# Altium schematic symbol library Schlib_Foxconn.SchLib: 1 symbol
Pins are listed as number, name and electrical type; pins without a type are passive.

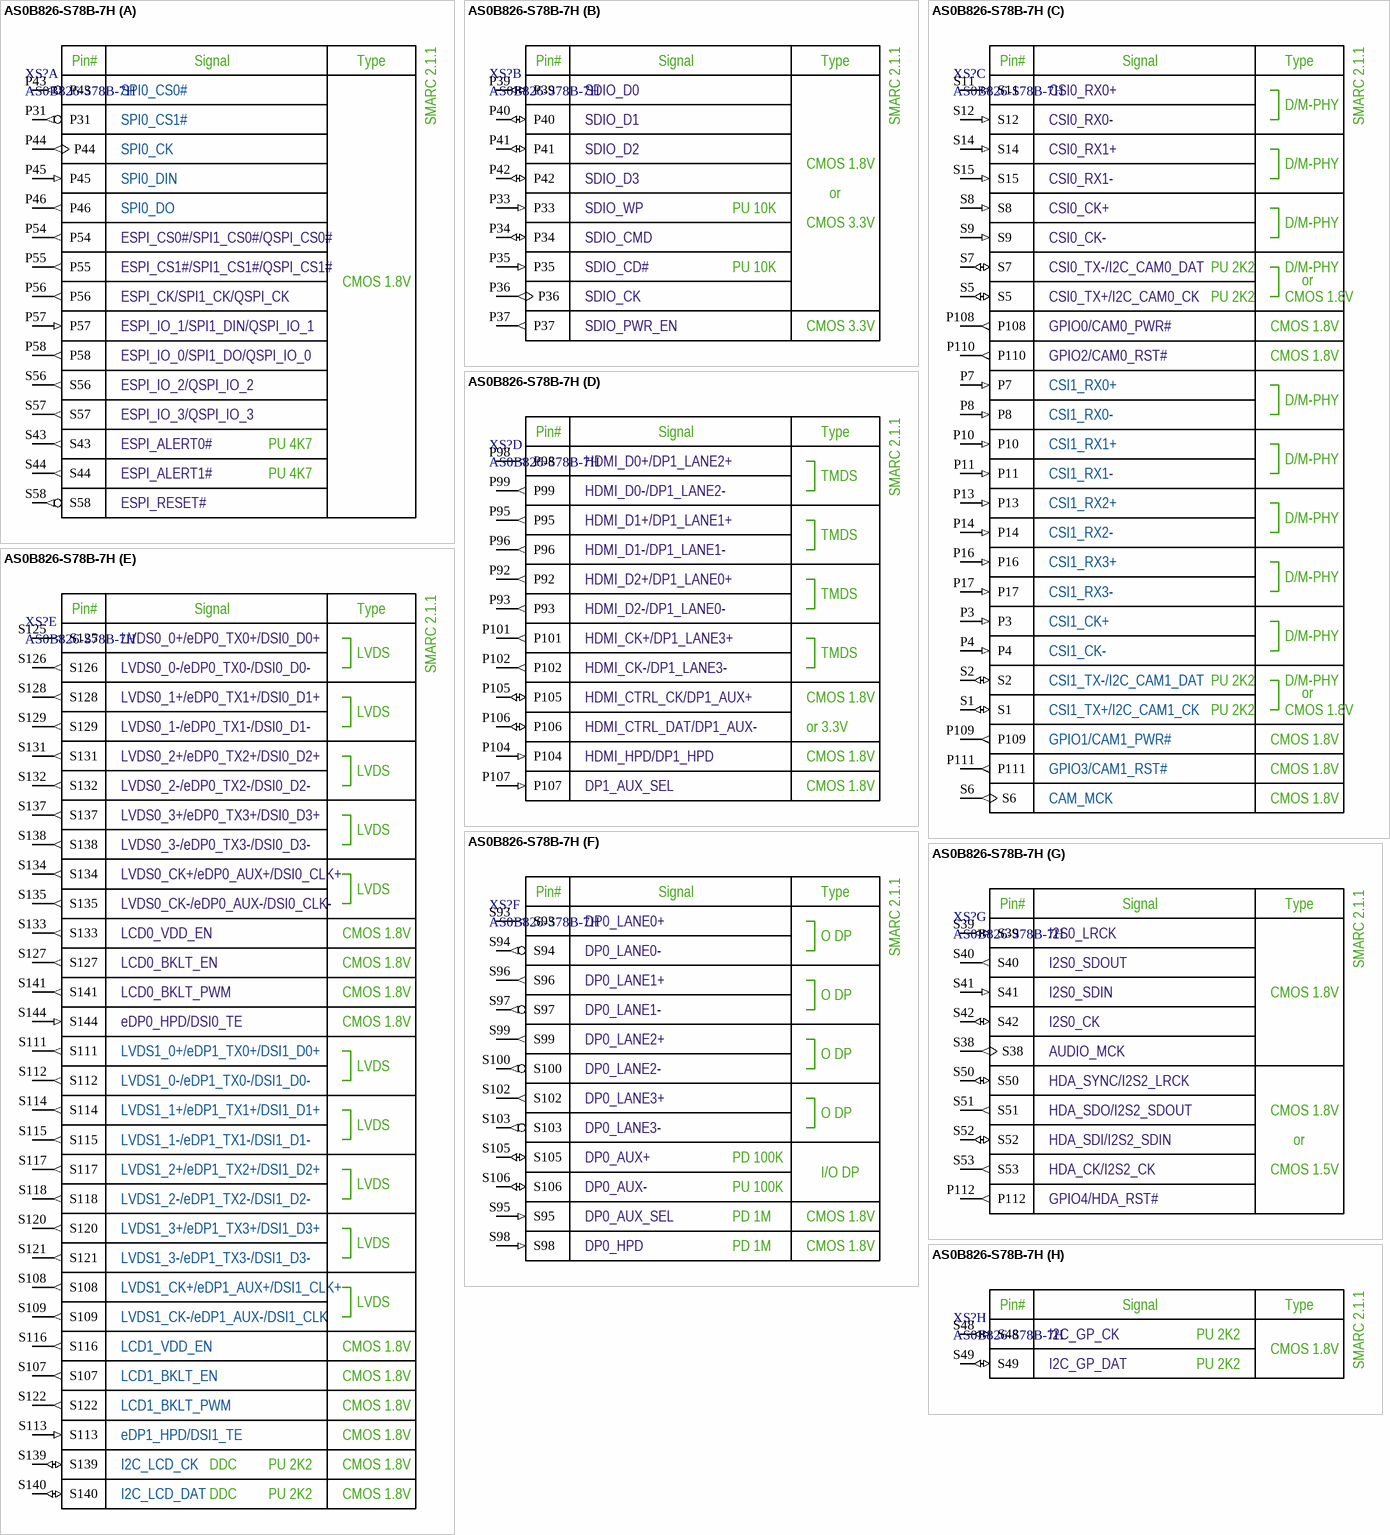
[diagram p0: symbol AS0B826-S78B-7H]

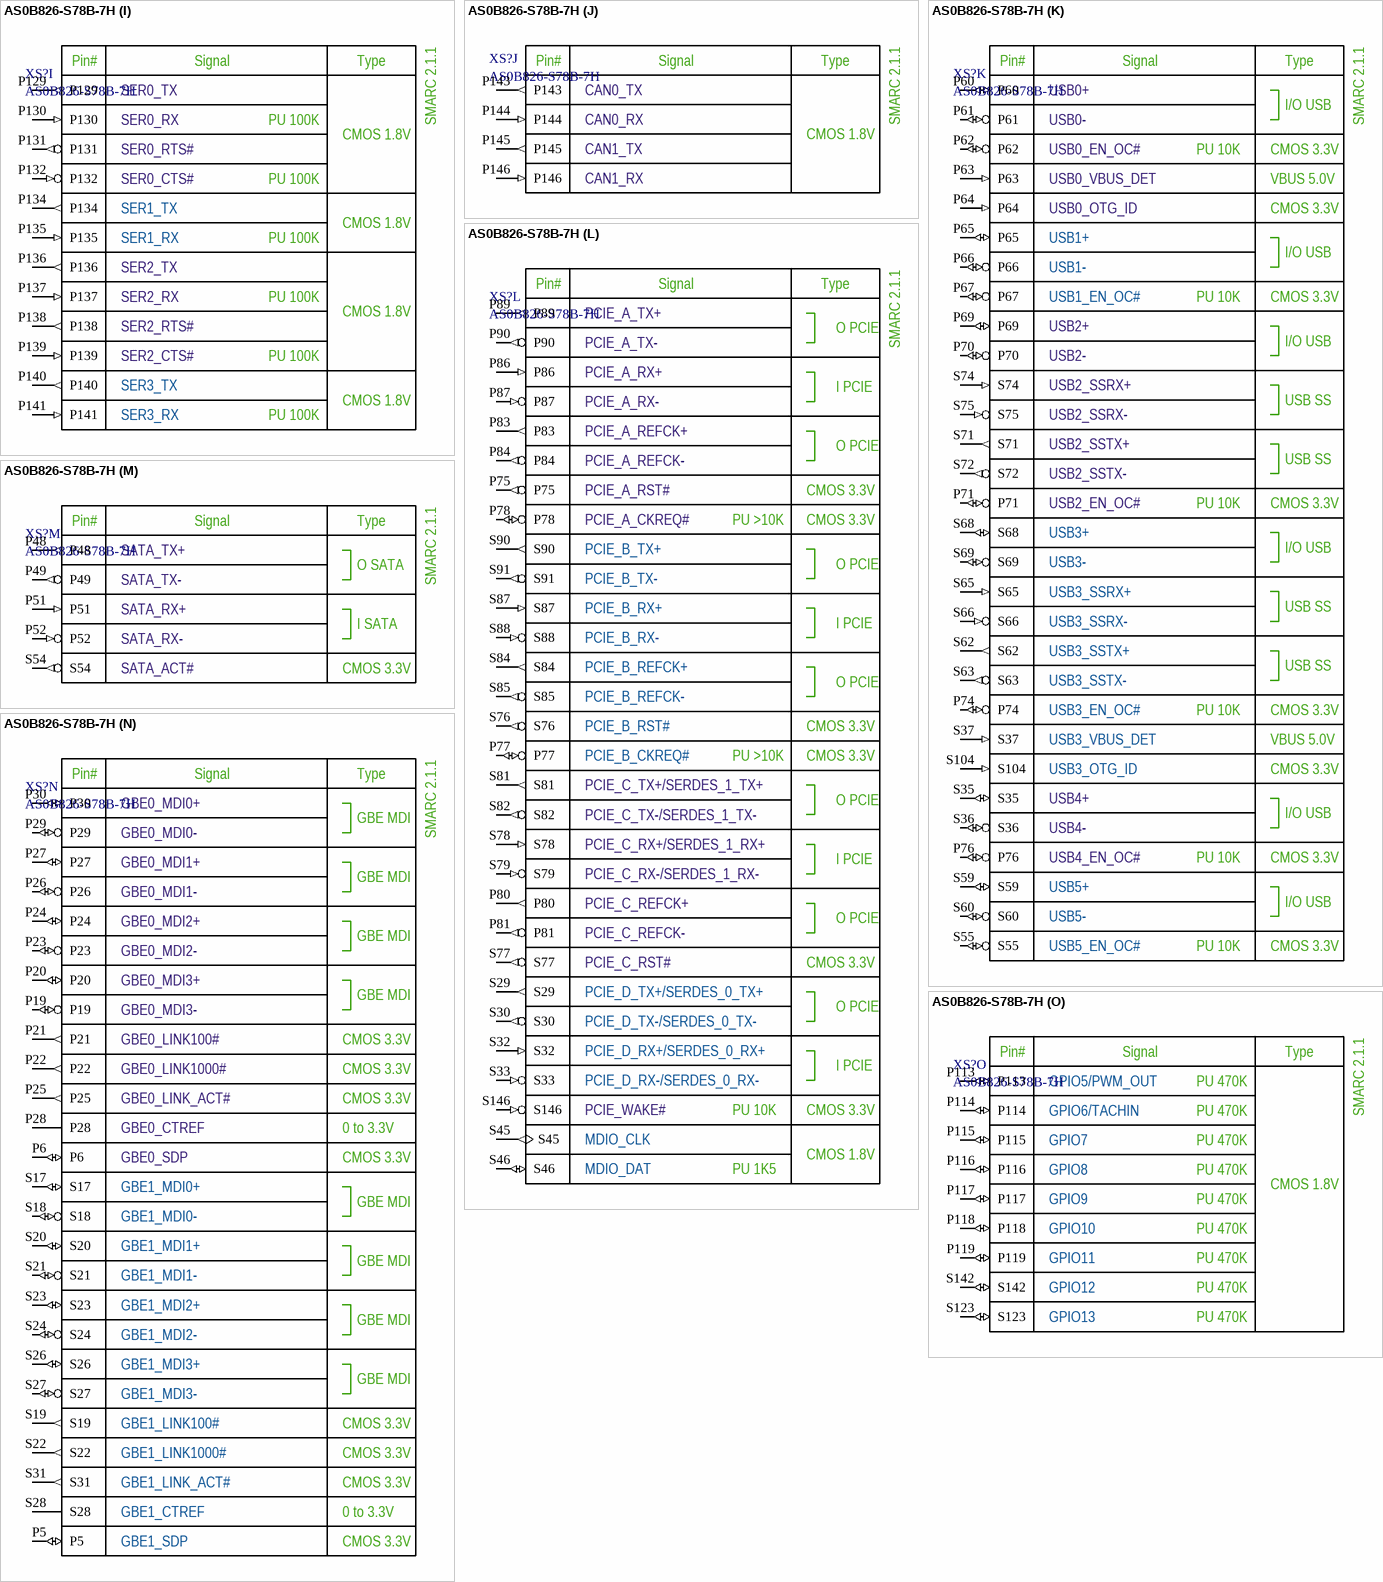
[diagram p1: symbol AS0B826-S78B-7H]

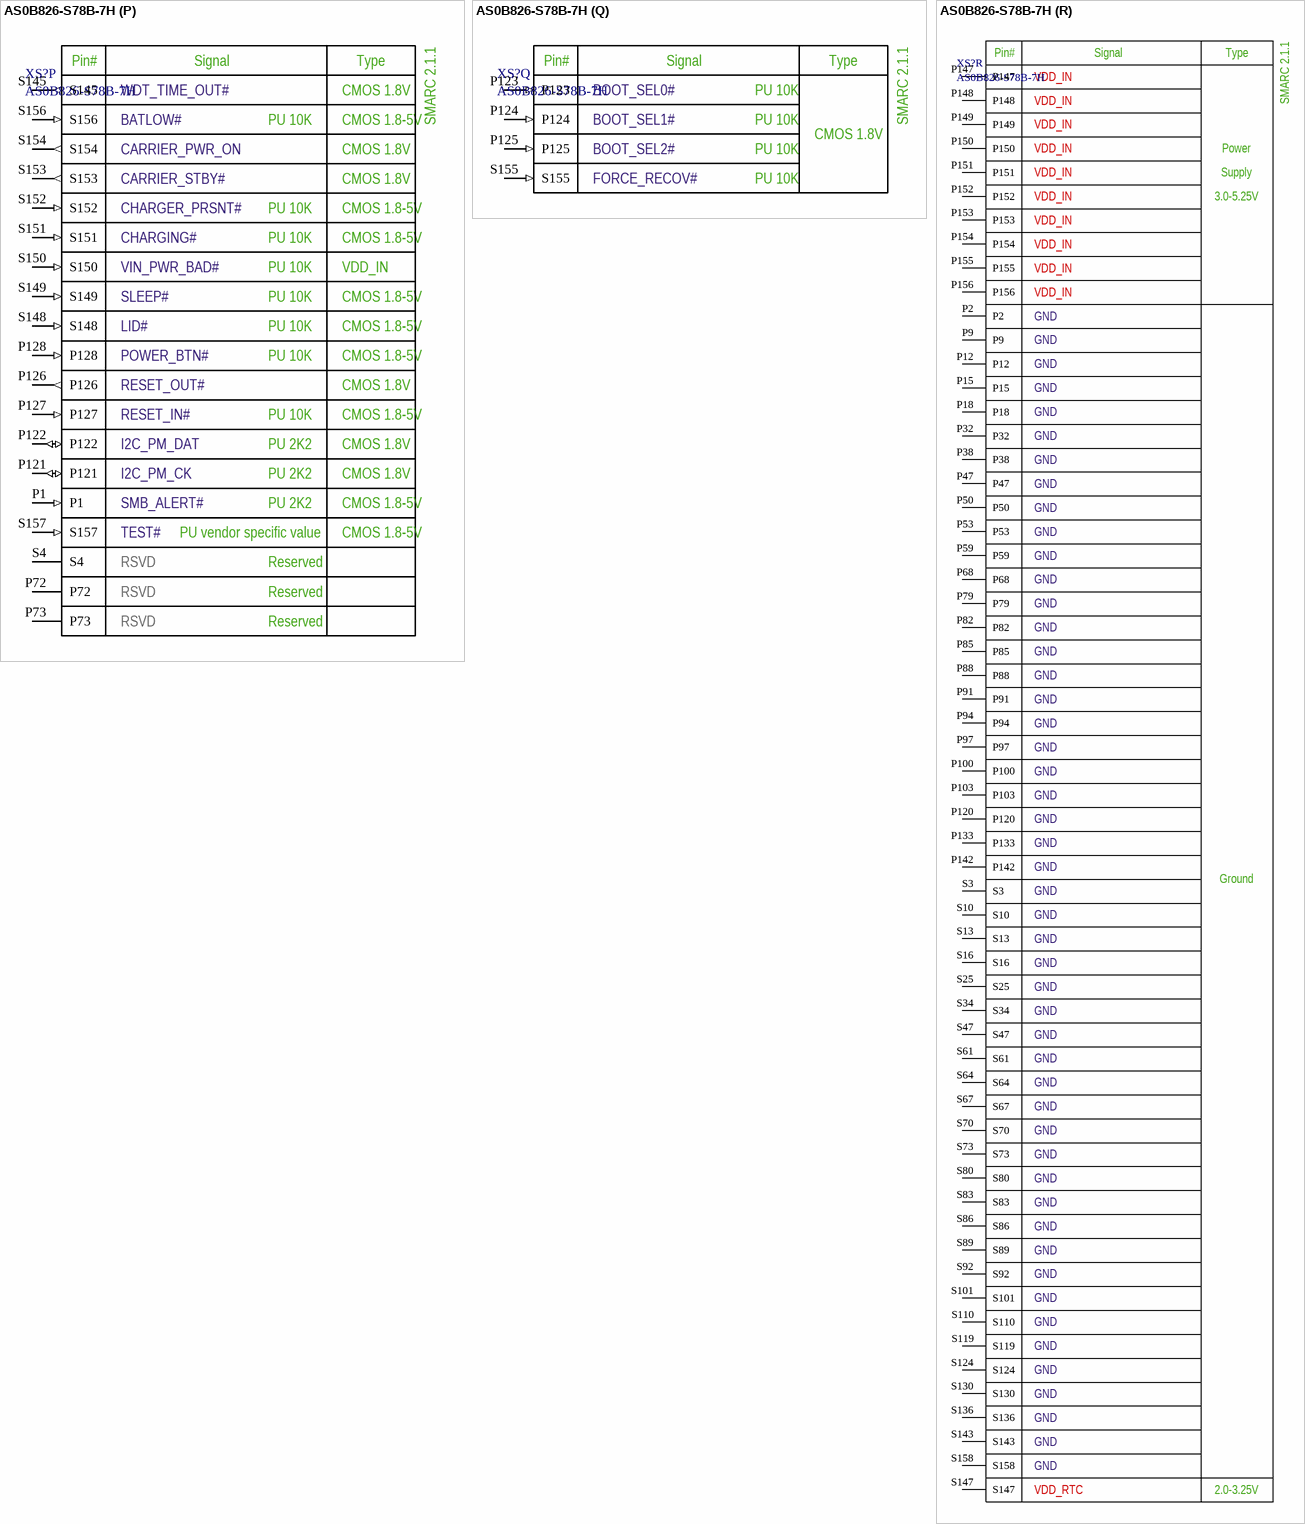
[diagram p2: symbol AS0B826-S78B-7H]

## AS0B826-S78B-7H
designator XS?
314-pin MxM Card Edge Connector, SMARC pinout; Manufacturer: Foxconn; Part Number: AS0B826-S78B-7H
footprint AS0B82X-S78B-XH (MXM3.0 Compatible Connector (SMARC 2.1))
footprint AS0B82X-S78B-XH_with_holes (MXM3.0 Compatible Connector (SMARC 2.1))
part A pins: P31 (out), P43 (out), P44 (out), P45 (in), P46 (out), P54 (out), P55 (out), P56 (out), P57 (in), P58 (out), S43 (out), S44 (out), S56 (out), S57 (out), S58 (out)
part B pins: P33 (in), P34 (io), P35 (in), P36 (out), P37 (out), P39 (io), P40 (io), P41 (io), P42 (io)
part C pins: P3 (in), P4 (in), P7 (in), P8 (in), P10 (in), P11 (in), P13 (in), P14 (in), P16 (in), P17 (in), P108 (out), P109 (out), P110 (out), P111 (out), S1 (io), S2 (io), S5 (io), S6 (out), S7 (io), S8 (in), S9 (in), S11 (in), S12 (in), S14 (in), S15 (in)
part D pins: P92 (out), P93 (out), P95 (out), P96 (out), P98 (out), P99 (out), P101 (out), P102 (out), P104 (in), P105 (io), P106 (io), P107 (in)
part E pins: S107 (out), S108 (out), S109 (out), S111 (out), S112 (out), S113 (in), S114 (out), S115 (out), S116 (out), S117 (out), S118 (out), S120 (out), S121 (out), S122 (out), S125 (out), S126 (out), S127 (out), S128 (out), S129 (out), S131 (out), S132 (out), S133 (out), S134 (out), S135 (out), S137 (out), S138 (out), S139 (io), S140 (io), S141 (out), S144 (in)
part F pins: S93 (out), S94 (out), S95 (in), S96 (out), S97 (out), S98 (in), S99 (out), S100 (out), S102 (out), S103 (out), S105 (io), S106 (io)
part G pins: P112 (out), S38 (out), S39 (io), S40 (out), S41 (in), S42 (io), S50 (io), S51 (out), S52 (io), S53 (out)
part H pins: S48 (io), S49 (io)
part I pins: P129 (out), P130 (in), P131 (out), P132 (in), P134 (out), P135 (in), P136 (out), P137 (in), P138 (out), P139 (in), P140 (out), P141 (in)
part J pins: P143 (out), P144 (in), P145 (out), P146 (in)
part K pins: P60 (io), P61 (io), P62 (io), P63 (in), P64 (in), P65 (io), P66 (io), P67 (io), P69 (io), P70 (io), P71 (io), P74 (io), P76 (io), S35 (io), S36 (io), S37 (in), S55 (io), S59 (io), S60 (io), S62 (out), S63 (out), S65 (in), S66 (in), S68 (io), S69 (io), S71 (out), S72 (out), S74 (in), S75 (in), S104 (in)
part L pins: P75 (out), P77 (io), P78 (io), P80 (out), P81 (out), P83 (out), P84 (out), P86 (in), P87 (in), P89 (out), P90 (out), S29 (out), S30 (out), S32 (in), S33 (in), S45 (out), S46 (io), S76 (out), S77 (out), S78 (in), S79 (in), S81 (out), S82 (out), S84 (out), S85 (out), S87 (in), S88 (in), S90 (out), S91 (out), S146 (in)
part M pins: P48 (out), P49 (out), P51 (in), P52 (in), S54 (out)
part N pins: P5 (io), P6 (io), P19 (io), P20 (io), P21 (out), P22 (out), P23 (io), P24 (io), P25 (out), P26 (io), P27 (io), P28, P29 (io), P30 (io), S17 (io), S18 (io), S19 (out), S20 (io), S21 (io), S22 (out), S23 (io), S24 (io), S26 (io), S27 (io), S28, S31 (out)
part O pins: P113 (io), P114 (io), P115 (io), P116 (io), P117 (io), P118 (io), P119 (io), S123 (io), S142 (io)
part P pins: P1 (in), P72 (hiz), P73 (hiz), P121 (io), P122 (io), P126 (out), P127 (in), P128 (in), S4 (hiz), S145 (out), S148 (in), S149 (in), S150 (in), S151 (in), S152 (in), S153 (out), S154 (out), S156 (in), S157 (in)
part Q pins: P123 (in), P124 (in), P125 (in), S155 (in)
part R pins: P2 (power), P9 (power), P12 (power), P15 (power), P18 (power), P32 (power), P38 (power), P47 (power), P50 (power), P53 (power), P59 (power), P68 (power), P79 (power), P82 (power), P85 (power), P88 (power), P91 (power), P94 (power), P97 (power), P100 (power), P103 (power), P120 (power), P133 (power), P142 (power), P147 (power), P148 (power), P149 (power), P150 (power), P151 (power), P152 (power), P153 (power), P154 (power), P155 (power), P156 (power), S3 (power), S10 (power), S13 (power), S16 (power), S25 (power), S34 (power), S47 (power), S61 (power), S64 (power), S67 (power), S70 (power), S73 (power), S80 (power), S83 (power), S86 (power), S89 (power), S92 (power), S101 (power), S110 (power), S119 (power), S124 (power), S130 (power), S136 (power), S143 (power), S147 (power), S158 (power)
part A text: SMARC 2.1.1; Pin#; Signal; Type; SPI0_CS0#; SPI0_CS1#; SPI0_CK; SPI0_DIN; SPI0_DO; ESPI_CS0#/SPI1_CS0#/QSPI_CS0#; ESPI_CS1#/SPI1_CS1#/QSPI_CS1#; CMOS 1.8V; ESPI_CK/SPI1_CK/QSPI_CK; ESPI_IO_1/SPI1_DIN/QSPI_IO_1; ESPI_IO_0/SPI1_DO/QSPI_IO_0; ESPI_IO_2/QSPI_IO_2; ESPI_IO_3/QSPI_IO_3; ESPI_ALERT0#; PU 4K7; ESPI_ALERT1#; ESPI_RESET#
part B text: SMARC 2.1.1; Pin#; Signal; Type; SDIO_D0; SDIO_D1; SDIO_D2; CMOS 1.8V; SDIO_D3; or; SDIO_WP; PU 10K; CMOS 3.3V; SDIO_CMD; SDIO_CD#; SDIO_CK; SDIO_PWR_EN
part C text: SMARC 2.1.1; Pin#; Signal; Type; CSI0_RX0+; D/M-PHY; CSI0_RX0-; CSI0_RX1+; CSI0_RX1-; CSI0_CK+; CSI0_CK-; CSI0_TX-/I2C_CAM0_DAT; PU 2K2; or; CSI0_TX+/I2C_CAM0_CK; CMOS 1.8V; GPIO0/CAM0_PWR#; GPIO2/CAM0_RST#; CSI1_RX0+; CSI1_RX0-; CSI1_RX1+; CSI1_RX1-; CSI1_RX2+; CSI1_RX2-; CSI1_RX3+; CSI1_RX3-; CSI1_CK+; CSI1_CK-; CSI1_TX-/I2C_CAM1_DAT; CSI1_TX+/I2C_CAM1_CK; GPIO1/CAM1_PWR#; GPIO3/CAM1_RST#; CAM_MCK
part D text: SMARC 2.1.1; Pin#; Signal; Type; HDMI_D0+/DP1_LANE2+; TMDS; HDMI_D0-/DP1_LANE2-; HDMI_D1+/DP1_LANE1+; HDMI_D1-/DP1_LANE1-; HDMI_D2+/DP1_LANE0+; HDMI_D2-/DP1_LANE0-; HDMI_CK+/DP1_LANE3+; HDMI_CK-/DP1_LANE3-; HDMI_CTRL_CK/DP1_AUX+; CMOS 1.8V; HDMI_CTRL_DAT/DP1_AUX-; or 3.3V; HDMI_HPD/DP1_HPD; DP1_AUX_SEL
part E text: SMARC 2.1.1; Pin#; Signal; Type; LVDS0_0+/eDP0_TX0+/DSI0_D0+; LVDS; LVDS0_0-/eDP0_TX0-/DSI0_D0-; LVDS0_1+/eDP0_TX1+/DSI0_D1+; LVDS0_1-/eDP0_TX1-/DSI0_D1-; LVDS0_2+/eDP0_TX2+/DSI0_D2+; LVDS0_2-/eDP0_TX2-/DSI0_D2-; LVDS0_3+/eDP0_TX3+/DSI0_D3+; LVDS0_3-/eDP0_TX3-/DSI0_D3-; LVDS0_CK+/eDP0_AUX+/DSI0_CLK+; LVDS0_CK-/eDP0_AUX-/DSI0_CLK-; LCD0_VDD_EN; CMOS 1.8V; LCD0_BKLT_EN; LCD0_BKLT_PWM; eDP0_HPD/DSI0_TE; LVDS1_0+/eDP1_TX0+/DSI1_D0+; LVDS1_0-/eDP1_TX0-/DSI1_D0-; LVDS1_1+/eDP1_TX1+/DSI1_D1+; LVDS1_1-/eDP1_TX1-/DSI1_D1-; LVDS1_2+/eDP1_TX2+/DSI1_D2+; LVDS1_2-/eDP1_TX2-/DSI1_D2-; LVDS1_3+/eDP1_TX3+/DSI1_D3+; LVDS1_3-/eDP1_TX3-/DSI1_D3-; LVDS1_CK+/eDP1_AUX+/DSI1_CLK+; LVDS1_CK-/eDP1_AUX-/DSI1_CLK; LCD1_VDD_EN; LCD1_BKLT_EN; LCD1_BKLT_PWM; eDP1_HPD/DSI1_TE; I2C_LCD_CK; DDC; PU 2K2; I2C_LCD_DAT
part F text: SMARC 2.1.1; Pin#; Signal; Type; DP0_LANE0+; O DP; DP0_LANE0-; DP0_LANE1+; DP0_LANE1-; DP0_LANE2+; DP0_LANE2-; DP0_LANE3+; DP0_LANE3-; DP0_AUX+; PD 100K; I/O DP; DP0_AUX-; PU 100K; DP0_AUX_SEL; PD 1M; CMOS 1.8V; DP0_HPD
part G text: SMARC 2.1.1; Pin#; Signal; Type; I2S0_LRCK; I2S0_SDOUT; I2S0_SDIN; CMOS 1.8V; I2S0_CK; AUDIO_MCK; HDA_SYNC/I2S2_LRCK; HDA_SDO/I2S2_SDOUT; HDA_SDI/I2S2_SDIN; or; HDA_CK/I2S2_CK; CMOS 1.5V; GPIO4/HDA_RST#
part H text: SMARC 2.1.1; Pin#; Signal; Type; I2C_GP_CK; PU 2K2; CMOS 1.8V; I2C_GP_DAT
part I text: SMARC 2.1.1; Pin#; Signal; Type; SER0_TX; SER0_RX; PU 100K; CMOS 1.8V; SER0_RTS#; SER0_CTS#; SER1_TX; SER1_RX; SER2_TX; SER2_RX; SER2_RTS#; SER2_CTS#; SER3_TX; SER3_RX
part J text: SMARC 2.1.1; Pin#; Signal; Type; CAN0_TX; CAN0_RX; CMOS 1.8V; CAN1_TX; CAN1_RX
part K text: SMARC 2.1.1; Pin#; Signal; Type; USB0+; I/O USB; USB0-; USB0_EN_OC#; PU 10K; CMOS 3.3V; USB0_VBUS_DET; VBUS 5.0V; USB0_OTG_ID; USB1+; USB1-; USB1_EN_OC#; USB2+; USB2-; USB2_SSRX+; USB SS; USB2_SSRX-; USB2_SSTX+; USB2_SSTX-; USB2_EN_OC#; USB3+; USB3-; USB3_SSRX+; USB3_SSRX-; USB3_SSTX+; USB3_SSTX-; USB3_EN_OC#; USB3_VBUS_DET; USB3_OTG_ID; USB4+; USB4-; USB4_EN_OC#; USB5+; USB5-; USB5_EN_OC#
part L text: SMARC 2.1.1; Pin#; Signal; Type; PCIE_A_TX+; O PCIE; PCIE_A_TX-; PCIE_A_RX+; I PCIE; PCIE_A_RX-; PCIE_A_REFCK+; PCIE_A_REFCK-; PCIE_A_RST#; CMOS 3.3V; PCIE_A_CKREQ#; PU >10K; PCIE_B_TX+; PCIE_B_TX-; PCIE_B_RX+; PCIE_B_RX-; PCIE_B_REFCK+; PCIE_B_REFCK-; PCIE_B_RST#; PCIE_B_CKREQ#; PCIE_C_TX+/SERDES_1_TX+; PCIE_C_TX-/SERDES_1_TX-; PCIE_C_RX+/SERDES_1_RX+; PCIE_C_RX-/SERDES_1_RX-; PCIE_C_REFCK+; PCIE_C_REFCK-; PCIE_C_RST#; PCIE_D_TX+/SERDES_0_TX+; PCIE_D_TX-/SERDES_0_TX-; PCIE_D_RX+/SERDES_0_RX+; PCIE_D_RX-/SERDES_0_RX-; PCIE_WAKE#; PU 10K; MDIO_CLK; CMOS 1.8V; MDIO_DAT; PU 1K5
part M text: SMARC 2.1.1; Pin#; Signal; Type; SATA_TX+; O SATA; SATA_TX-; SATA_RX+; I SATA; SATA_RX-; SATA_ACT#; CMOS 3.3V
part N text: SMARC 2.1.1; Pin#; Signal; Type; GBE0_MDI0+; GBE MDI; GBE0_MDI0-; GBE0_MDI1+; GBE0_MDI1-; GBE0_MDI2+; GBE0_MDI2-; GBE0_MDI3+; GBE0_MDI3-; GBE0_LINK100#; CMOS 3.3V; GBE0_LINK1000#; GBE0_LINK_ACT#; GBE0_CTREF; 0 to 3.3V; GBE0_SDP; GBE1_MDI0+; GBE1_MDI0-; GBE1_MDI1+; GBE1_MDI1-; GBE1_MDI2+; GBE1_MDI2-; GBE1_MDI3+; GBE1_MDI3-; GBE1_LINK100#; GBE1_LINK1000#; GBE1_LINK_ACT#; GBE1_CTREF; GBE1_SDP
part O text: SMARC 2.1.1; Pin#; Signal; Type; GPIO5/PWM_OUT; PU 470K; GPIO6/TACHIN; GPIO7; GPIO8; CMOS 1.8V; GPIO9; GPIO10; GPIO11; GPIO12; GPIO13
part P text: SMARC 2.1.1; Pin#; Signal; Type; WDT_TIME_OUT#; CMOS 1.8V; BATLOW#; PU 10K; CMOS 1.8-5V; CARRIER_PWR_ON; CARRIER_STBY#; CHARGER_PRSNT#; CHARGING#; VIN_PWR_BAD#; VDD_IN; SLEEP#; LID#; POWER_BTN#; RESET_OUT#; RESET_IN#; I2C_PM_DAT; PU 2K2; I2C_PM_CK; SMB_ALERT#; TEST#; PU vendor specific value; RSVD; Reserved
part Q text: SMARC 2.1.1; Pin#; Signal; Type; BOOT_SEL0#; PU 10K; BOOT_SEL1#; CMOS 1.8V; BOOT_SEL2#; FORCE_RECOV#
part R text: SMARC 2.1.1; Pin#; Signal; Type; VDD_IN; Power; Supply; 3.0-5.25V; GND; Ground; VDD_RTC; 2.0-3.25V